# Altium schematic symbol library P18F45K80-TQFP44.SchLib: 1 symbol
Pins are listed as number, name and electrical type; pins without a type are passive.

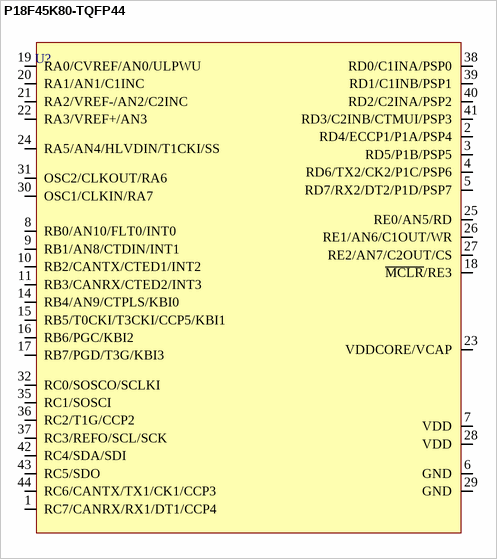
[diagram p0: symbol P18F45K80-TQFP44]

## P18F45K80-TQFP44
designator U?
pins: 1 RC7/CANRX/RX1/DT1/CCP4, 2 RD4/ECCP1/P1A/PSP4, 3 RD5/P1B/PSP5, 4 RD6/TX2/CK2/P1C/PSP6, 5 RD7/RX2/DT2/P1D/PSP7, 6 GND, 7 VDD, 8 RB0/AN10/FLT0/INT0, 9 RB1/AN8/CTDIN/INT1, 10 RB2/CANTX/CTED1/INT2, 11 RB3/CANRX/CTED2/INT3, 14 RB4/AN9/CTPLS/KBI0, 15 RB5/T0CKI/T3CKI/CCP5/KBI1, 16 RB6/PGC/KBI2, 17 RB7/PGD/T3G/KBI3, 18 ~{MCLR}/RE3, 19 RA0/CVREF/AN0/ULPWU, 20 RA1/AN1/C1INC, 21 RA2/VREF-/AN2/C2INC, 22 RA3/VREF+/AN3, 23 VDDCORE/VCAP, 24 RA5/AN4/HLVDIN/T1CKI/SS, 25 RE0/AN5/RD, 26 RE1/AN6/C1OUT/WR, 27 RE2/AN7/C2OUT/CS, 28 VDD, 29 GND, 30 OSC1/CLKIN/RA7, 31 OSC2/CLKOUT/RA6, 32 RC0/SOSCO/SCLKI, 35 RC1/SOSCI, 36 RC2/T1G/CCP2, 37 RC3/REFO/SCL/SCK, 38 RD0/C1INA/PSP0, 39 RD1/C1INB/PSP1, 40 RD2/C2INA/PSP2, 41 RD3/C2INB/CTMUI/PSP3, 42 RC4/SDA/SDI, 43 RC5/SDO, 44 RC6/CANTX/TX1/CK1/CCP3